# Altium footprint library connectors.PcbLib: 4 footprints
Each footprint in its own frame and in the unit in brackets; x right, y up, seen from the top. Pads: shape width x height; smd on the part's side, far side on the other; paste and mask are expansions set on the pad; w line width, h text height; cw(c..) or ccw(c..) is an arc to the next point about the centre after c.
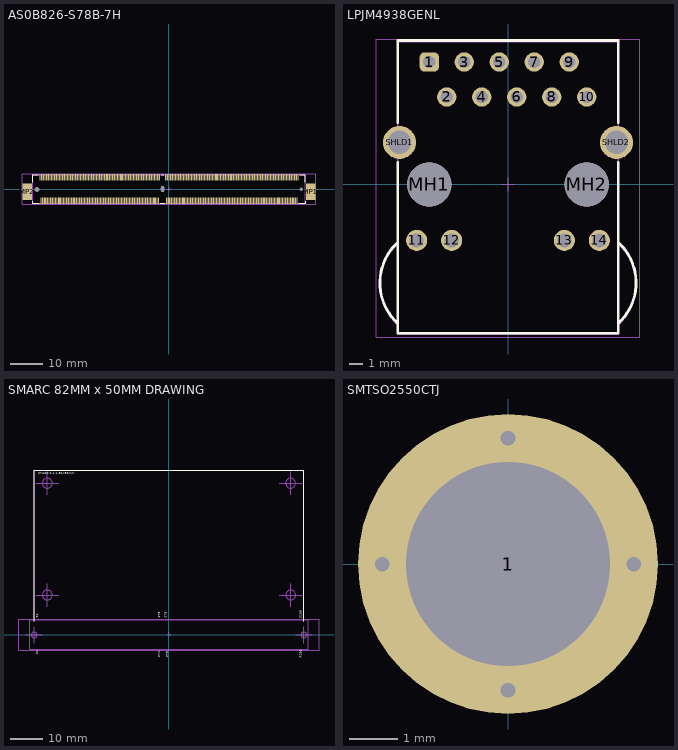
[diagram p0: the footprints below, top view; thin cyan lines are the x and y axes]

## AS0B826-S78B-7H [mm] "314pin MXM3.0 CONNECTOR"
height 7.8
pads (319):
  round 0 hole 1.1: MH1(41,-0.125)
  round 0 hole 1.6: MH2(-41,-0.125)
  oval 1x1.8 hole 1 slot 1.8 at 90 deg unplated: MH3(-2,0)
  rect 3x5.15 smd: MP1(44,-0.875) MP2(-44,-0.875)
  rect 0.35x2 smd: P1(-39.75,-3.625) P2(-39.25,-3.625) P3(-38.75,-3.625) P4(-38.25,-3.625) P5(-37.75,-3.625) P6(-37.25,-3.625) P7(-36.75,-3.625) P8(-36.25,-3.625) P9(-35.75,-3.625) P10(-35.25,-3.625) P11(-34.75,-3.625) P12(-34.25,-3.625) P13(-33.75,-3.625) P14(-33.25,-3.625) P15(-32.75,-3.625) P16(-32.25,-3.625) P17(-31.75,-3.625) P18(-31.25,-3.625) P19(-30.75,-3.625) P20(-30.25,-3.625) P21(-29.75,-3.625) P22(-29.25,-3.625) P23(-28.75,-3.625) P24(-28.25,-3.625) P25(-27.75,-3.625) P26(-27.25,-3.625) P27(-26.75,-3.625) P28(-26.25,-3.625) P29(-25.75,-3.625) P30(-25.25,-3.625) P31(-24.75,-3.625) P32(-24.25,-3.625) P33(-23.75,-3.625) P34(-23.25,-3.625) P35(-22.75,-3.625) P36(-22.25,-3.625) P37(-21.75,-3.625) P38(-21.25,-3.625) P39(-20.75,-3.625) P40(-20.25,-3.625) P41(-19.75,-3.625) P42(-19.25,-3.625) P43(-18.75,-3.625) P44(-18.25,-3.625) P45(-17.75,-3.625) P46(-17.25,-3.625) P47(-16.75,-3.625) P48(-16.25,-3.625) P49(-15.75,-3.625) P50(-15.25,-3.625) P51(-14.75,-3.625) P52(-14.25,-3.625) P53(-13.75,-3.625) P54(-13.25,-3.625) P55(-12.75,-3.625) P56(-12.25,-3.625) P57(-11.75,-3.625) P58(-11.25,-3.625) P59(-10.75,-3.625) P60(-10.25,-3.625) P61(-9.75,-3.625) P62(-9.25,-3.625) P63(-8.75,-3.625) P64(-8.25,-3.625) P65(-7.75,-3.625) P66(-7.25,-3.625) P67(-6.75,-3.625) P68(-6.25,-3.625) P69(-5.75,-3.625) P70(-5.25,-3.625) P71(-4.75,-3.625) P72(-4.25,-3.625) P73(-3.75,-3.625) P74(-3.25,-3.625) P75(-0.75,-3.625) P76(-0.25,-3.625) P77(0.25,-3.625) P78(0.75,-3.625) P79(1.25,-3.625) P80(1.75,-3.625) P81(2.25,-3.625) P82(2.75,-3.625) P83(3.25,-3.625) P84(3.75,-3.625) P85(4.25,-3.625) P86(4.75,-3.625) P87(5.25,-3.625) P88(5.75,-3.625) P89(6.25,-3.625) P90(6.75,-3.625) P91(7.25,-3.625) P92(7.75,-3.625) P93(8.25,-3.625) P94(8.75,-3.625) P95(9.25,-3.625) P96(9.75,-3.625) P97(10.25,-3.625) P98(10.75,-3.625) P99(11.25,-3.625) P100(11.75,-3.625) P101(12.25,-3.625) P102(12.75,-3.625) P103(13.25,-3.625) P104(13.75,-3.625) P105(14.25,-3.625) P106(14.75,-3.625) P107(15.25,-3.625) P108(15.75,-3.625) P109(16.25,-3.625) P110(16.75,-3.625) P111(17.25,-3.625) P112(17.75,-3.625) P113(18.25,-3.625) P114(18.75,-3.625) P115(19.25,-3.625) P116(19.75,-3.625) P117(20.25,-3.625) P118(20.75,-3.625) P119(21.25,-3.625) P120(21.75,-3.625) P121(22.25,-3.625) P122(22.75,-3.625) P123(23.25,-3.625) P124(23.75,-3.625) P125(24.25,-3.625) P126(24.75,-3.625) P127(25.25,-3.625) P128(25.75,-3.625) P129(26.25,-3.625) P130(26.75,-3.625) P131(27.25,-3.625) P132(27.75,-3.625) P133(28.25,-3.625) P134(28.75,-3.625) P135(29.25,-3.625) P136(29.75,-3.625) P137(30.25,-3.625) P138(30.75,-3.625) P139(31.25,-3.625) P140(31.75,-3.625) P141(32.25,-3.625) P142(32.75,-3.625) P143(33.25,-3.625) P144(33.75,-3.625) P145(34.25,-3.625) P146(34.75,-3.625) P147(35.25,-3.625) P148(35.75,-3.625) P149(36.25,-3.625) P150(36.75,-3.625) P151(37.25,-3.625) P152(37.75,-3.625) P153(38.25,-3.625) P154(38.75,-3.625) P155(39.25,-3.625) P156(39.75,-3.625) S1(-40,3.625) S2(-39.5,3.625) S3(-39,3.625) S4(-38.5,3.625) S5(-38,3.625) S6(-37.5,3.625) S7(-37,3.625) S8(-36.5,3.625) S9(-36,3.625) S10(-35.5,3.625) S11(-35,3.625) S12(-34.5,3.625) S13(-34,3.625) S14(-33.5,3.625) S15(-33,3.625) S16(-32.5,3.625) S17(-32,3.625) S18(-31.5,3.625) S19(-31,3.625) S20(-30.5,3.625) S21(-30,3.625) S22(-29.5,3.625) S23(-29,3.625) S24(-28.5,3.625) S25(-28,3.625) S26(-27.5,3.625) S27(-27,3.625) S28(-26.5,3.625) S29(-26,3.625) S30(-25.5,3.625) S31(-25,3.625) S32(-24.5,3.625) S33(-24,3.625) S34(-23.5,3.625) S35(-23,3.625) S36(-22.5,3.625) S37(-22,3.625) S38(-21.5,3.625) S39(-21,3.625) S40(-20.5,3.625) S41(-20,3.625) S42(-19.5,3.625) S43(-19,3.625) S44(-18.5,3.625) S45(-18,3.625) S46(-17.5,3.625) S47(-17,3.625) S48(-16.5,3.625) S49(-16,3.625) S50(-15.5,3.625) S51(-15,3.625) S52(-14.5,3.625) S53(-14,3.625) S54(-13.5,3.625) S55(-13,3.625) S56(-12.5,3.625) S57(-12,3.625) S58(-11.5,3.625) S59(-11,3.625) S60(-10.5,3.625) S61(-10,3.625) S62(-9.5,3.625) S63(-9,3.625) S64(-8.5,3.625) S65(-8,3.625) S66(-7.5,3.625) S67(-7,3.625) S68(-6.5,3.625) S69(-6,3.625) S70(-5.5,3.625) S71(-5,3.625) S72(-4.5,3.625) S73(-4,3.625) S74(-3.5,3.625) S75(-3,3.625) S76(-1,3.625) S77(-0.5,3.625) S78(0,3.625) S79(0.5,3.625) S80(1,3.625) S81(1.5,3.625) S82(2,3.625) S83(2.5,3.625) S84(3,3.625) S85(3.5,3.625) S86(4,3.625) S87(4.5,3.625) S88(5,3.625) S89(5.5,3.625) S90(6,3.625) S91(6.5,3.625) S92(7,3.625) S93(7.5,3.625) S94(8,3.625) S95(8.5,3.625) S96(9,3.625) S97(9.5,3.625) S98(10,3.625) S99(10.5,3.625) S100(11,3.625) S101(11.5,3.625) S102(12,3.625) S103(12.5,3.625) S104(13,3.625) S105(13.5,3.625) S106(14,3.625) S107(14.5,3.625) S108(15,3.625) S109(15.5,3.625) S110(16,3.625) S111(16.5,3.625) S112(17,3.625) S113(17.5,3.625) S114(18,3.625) S115(18.5,3.625) S116(19,3.625) S117(19.5,3.625) S118(20,3.625) S119(20.5,3.625) S120(21,3.625) S121(21.5,3.625) S122(22,3.625) S123(22.5,3.625) S124(23,3.625) S125(23.5,3.625) S126(24,3.625) S127(24.5,3.625) S128(25,3.625) S129(25.5,3.625) S130(26,3.625) S131(26.5,3.625) S132(27,3.625) S133(27.5,3.625) S134(28,3.625) S135(28.5,3.625) S136(29,3.625) S137(29.5,3.625) S138(30,3.625) S139(30.5,3.625) S140(31,3.625) S141(31.5,3.625) S142(32,3.625) S143(32.5,3.625) S144(33,3.625) S145(33.5,3.625) S146(34,3.625) S147(34.5,3.625) S148(35,3.625) S149(35.5,3.625) S150(36,3.625) S151(36.5,3.625) S152(37,3.625) S153(37.5,3.625) S154(38,3.625) S155(38.5,3.625) S156(39,3.625) S157(39.5,3.625) S158(40,3.625)
Top Overlay:
  lines w0.2: -42.3,-3.8 -42.3,-4.45 -40.31,-4.45 ; -42.3,2.05 -42.3,4.45 -40.56,4.45 ; -2.675,-4.45 -1.325,-4.45 ; -2.425,4.45 -1.575,4.45 ; 40.31,-4.45 42.3,-4.45 42.3,-3.8 ; 40.56,4.45 42.3,4.45 42.3,2.05
Top 3D Body:
  lines w0.1: -42.3,-4.45 -42.3,4.45 42.3,4.45 42.3,-4.45 -42.3,-4.45
Top Courtyard:
  lines w0.05: -45.6,-4.725 -45.6,4.725 45.6,4.725 45.6,-4.725 -45.6,-4.725
Top Component Center:
  lines w0.1: -0.5,0 0.5,0 ; 0,-0.5 0,0.5
3D body "Foxconn_AS0B821-S78B-7H_AS0B826-S78B-7H_AS0B821-S78B-1H_AS0B826-S78B-1H_317-0000-1969_MXM_Socket.STEP": height 7.8, standoff -1.4, extent -44.4,-4.45 44.5,4.45

## LPJM4938GENL [mm] "2.5G Base-T RJ45 Jack With Magnetics Single Port Green/Yellow Led"
height 13.95
pads (18):
  rrect50% 1.4x1.4 hole 0.9: 1(-5.715,8.89)
  round 1.4 hole 0.9: 2(-4.445,6.35) 3(-3.175,8.89) 4(-1.905,6.35) 5(-0.635,8.89) 6(0.635,6.35) 7(1.905,8.89) 8(3.175,6.35) 9(4.445,8.89) 10(5.715,6.35)
  round 1.53 hole 1.02: 11(-6.63,-4.06) 12(-4.09,-4.06) 13(4.09,-4.06) 14(6.63,-4.06)
  round 3.2 hole 3.2 unplated: MH1(-5.715,0) MH2(5.715,0)
  round 2.4 hole 1.7: SHLD1(-7.875,3.05) SHLD2(7.875,3.05)
Top Overlay:
  lines w0.2: -8.099,-4.287 ccw(c-5.31,-7.14) -8.001,-10.086 ; -8,1.6 -8,-10.8 8,-10.8 8,1.6 ; -8,4.5 -8,10.45 8,10.45 8,4.5 ; 8.001,-10.086 ccw(c5.31,-7.14) 8.099,-4.287
Top Assembly:
  lines w0.1: -8.099,-4.377 ccw(c-5.31,-7.23) -8.001,-10.176 ; 8.001,-10.176 ccw(c5.31,-7.23) 8.099,-4.377 ; -8,-10.89 8,-10.89 8,10.36 -8,10.36 -8,-10.89
Top Courtyard:
  lines w0.05: -9.548,-11.09 -9.548,10.56 9.548,10.56 9.548,-11.09 -9.548,-11.09
Top Component Center:
  lines w0.05: -0.5,0 0.5,0 ; 0,-0.5 0,0.5
3D body "7499211121A.stp": height 14.9, standoff -3.55, extent -9.348,-10.89 9.348,10.36

## SMARC 82MM x 50MM DRAWING [mm]
height 7.8
Top Overlay:
  lines w0.2: -41,4 -41,50.005 41,50.005 41,4
  text "SMARC 2.1.1 82x50mm" at -39.713,48.683 h0.64
  text "P74" at -2.682,-6.846 h0.64
  text "S1" at -39.683,5.077 h0.64
  text "P1" at -39.682,-5.923 h0.64
  text "S75" at -2.682,5.153 h0.64
  text "S76" at -0.683,5.154 h0.64
  text "S158" at 40.317,4.889 h0.64
  text "P75" at -0.182,-6.846 h0.64
  text "P156" at 40.318,-7.111 h0.64
Drawings:
  circle w0.1: c-37,12.005 r1.5
  circle w0.1: c-41,-0.125 r0.875
  circle w0.1: c41,-0.125 r0.875
  circle w0.1: c-37,46.005 r1.5
  circle w0.1: c37,46 r1.5
  circle w0.1: c37,12.005 r1.5
  lines w0.1: -43.5,-0.125 -38.5,-0.125 ; -41,-2.625 -41,2.375 ; -41,4 -41,50.005 41,50.005 41,4 ; -40.5,12.005 -33.5,12.005 ; -40.5,46.005 -33.5,46.005 ; -37,8.505 -37,15.505 ; -37,42.505 -37,49.505 ; -0.5,0 0.5,0 ; 0,-0.5 0,0.5 ; 33.5,12.005 40.5,12.005 ; 33.5,46 40.5,46 ; 37,8.505 37,15.505 ; 37,42.5 37,49.5 ; 38.5,-0.125 43.5,-0.125 ; 41,-2.625 41,2.375 ; -45.6,-4.725 -45.6,4.725 45.6,4.725 45.6,-4.725 -45.6,-4.725 ; -42.3,-4.45 42.3,-4.45 42.3,4.45 -42.3,4.45 -42.3,-4.45

## SMTSO2550CTJ [mm]
pads (1):
  round 6.2 / inner round 6.2 / far side round 0 hole 4.22 unplated mask-2539.97: 1(0,0.005)
via 0,2.6 diameter 0.6 hole 0.3
via 0,-2.6 diameter 0.6 hole 0.3
via -2.6,0 diameter 0.6 hole 0.3
via 2.6,0 diameter 0.6 hole 0.3
Top Solder:
  circle w0.9: c0,0.005 r2.675
Bottom Solder:
  circle w3.1: c0,0.005 r1.55
Top Component Center:
  lines w0.1: -0.5,0 0.5,0 ; 0,-0.5 0,0.5
3D body "NUT SMD M2,5 H05mm.stp": height 5, standoff -1.4, extent -2.596,-2.55 2.5,2.55